# Altium schematic symbol library jlcpcb_2025_04_ferrites_extended_0805.schlib: 546 symbols (part 5 of 10)
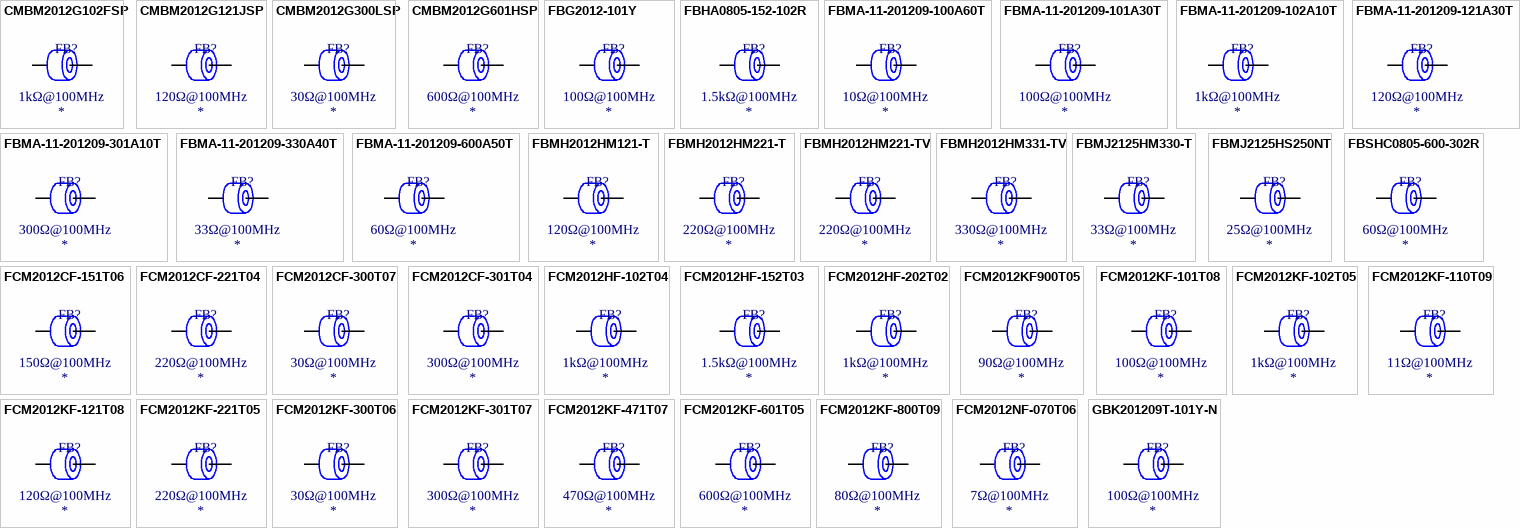
[diagram p17: symbols CMBM2012G102FSP to GBK201209T-101Y-N]

## FCM2012CF-151T06
designator FB?  Impedance @ Frequency: 150Ω@100MHz
Ferrite, 150Ω@100MHz, ±25%, 250mΩ, 600mA, SMD 0805; Manufacturer: TAI-TECH; Manufacturer Part Number: FCM2012CF-151T06; Package Size: 0805; JLCPCB Basic Part: No; JLCPCB Part Number: C155068; Supplier 1: LCSC; Category: Ferrite Beads; Supplier Part Number 1: C155068; Tolerance: ±25%; Rated Current: 600mA; DC Resistance: 250mΩ; RoHS: Yes; ComponentLink1Description: Datasheet; ComponentLink1URL: https://wmsc.lcsc.com/wmsc/upload/file/pdf/v2/lcsc/2009171306_TAI-TECH-FCM2012CF-151T06_C155068.pdf; ComponentLink2Description: JLCPCB Part URL; ComponentLink2URL: https://jlcpcb.com/partdetail/C155068; ComponentLink3Description: LCSC Part URL; ComponentLink3URL: https://lcsc.com/product-detail/Ferrite-Beads_TAI-TECH-TAI-TECH-FCM2012CF-151T06_C155068.html
footprint FB-0805 (0805 (2012M) Ferrite)
pins: 1, 2

## FCM2012CF-221T04
designator FB?  Impedance @ Frequency: 220Ω@100MHz
Ferrite, 220Ω@100MHz, ±25%, 300mΩ, 400mA, SMD 0805; Manufacturer: TAI-TECH; Manufacturer Part Number: FCM2012CF-221T04; Package Size: 0805; JLCPCB Basic Part: No; JLCPCB Part Number: C155069; Supplier 1: LCSC; Category: Ferrite Beads; Supplier Part Number 1: C155069; Tolerance: ±25%; Rated Current: 400mA; DC Resistance: 300mΩ; RoHS: Yes; ComponentLink1Description: Datasheet; ComponentLink1URL: https://wmsc.lcsc.com/wmsc/upload/file/pdf/v2/lcsc/2009171306_TAI-TECH-FCM2012CF-221T04_C155069.pdf; ComponentLink2Description: JLCPCB Part URL; ComponentLink2URL: https://jlcpcb.com/partdetail/C155069; ComponentLink3Description: LCSC Part URL; ComponentLink3URL: https://lcsc.com/product-detail/Ferrite-Beads_TAI-TECH-TAI-TECH-FCM2012CF-221T04_C155069.html
footprint FB-0805 (0805 (2012M) Ferrite)
pins: 1, 2

## FCM2012CF-300T07
designator FB?  Impedance @ Frequency: 30Ω@100MHz
Ferrite, 30Ω@100MHz, ±25%, 200mΩ, 700mA, SMD 0805; Manufacturer: TAI-TECH; Manufacturer Part Number: FCM2012CF-300T07; Package Size: 0805; JLCPCB Basic Part: No; JLCPCB Part Number: C155070; Supplier 1: LCSC; Category: Ferrite Beads; Supplier Part Number 1: C155070; Tolerance: ±25%; Rated Current: 700mA; DC Resistance: 200mΩ; RoHS: Yes; ComponentLink1Description: Datasheet; ComponentLink1URL: https://wmsc.lcsc.com/wmsc/upload/file/pdf/v2/lcsc/2009171306_TAI-TECH-FCM2012CF-300T07_C155070.pdf; ComponentLink2Description: JLCPCB Part URL; ComponentLink2URL: https://jlcpcb.com/partdetail/C155070; ComponentLink3Description: LCSC Part URL; ComponentLink3URL: https://lcsc.com/product-detail/Ferrite-Beads_TAI-TECH-TAI-TECH-FCM2012CF-300T07_C155070.html
footprint FB-0805 (0805 (2012M) Ferrite)
pins: 1, 2

## FCM2012CF-301T04
designator FB?  Impedance @ Frequency: 300Ω@100MHz
Ferrite, 300Ω@100MHz, ±25%, 350mΩ, 400mA, SMD 0805; Manufacturer: TAI-TECH; Manufacturer Part Number: FCM2012CF-301T04; Package Size: 0805; JLCPCB Basic Part: No; JLCPCB Part Number: C155071; Supplier 1: LCSC; Category: Ferrite Beads; Supplier Part Number 1: C155071; Tolerance: ±25%; Rated Current: 400mA; DC Resistance: 350mΩ; RoHS: Yes; ComponentLink1Description: Datasheet; ComponentLink1URL: https://wmsc.lcsc.com/wmsc/upload/file/pdf/v2/lcsc/2009171306_TAI-TECH-FCM2012CF-301T04_C155071.pdf; ComponentLink2Description: JLCPCB Part URL; ComponentLink2URL: https://jlcpcb.com/partdetail/C155071; ComponentLink3Description: LCSC Part URL; ComponentLink3URL: https://lcsc.com/product-detail/Ferrite-Beads_TAI-TECH-TAI-TECH-FCM2012CF-301T04_C155071.html
footprint FB-0805 (0805 (2012M) Ferrite)
pins: 1, 2

## FCM2012HF-102T04
designator FB?  Impedance @ Frequency: 1kΩ@100MHz
Ferrite, 1kΩ@100MHz, ±25%, 450mΩ, 400mA, SMD 0805; Manufacturer: TAI-TECH; Manufacturer Part Number: FCM2012HF-102T04; Package Size: 0805; JLCPCB Basic Part: No; JLCPCB Part Number: C155073; Supplier 1: LCSC; Category: Ferrite Beads; Supplier Part Number 1: C155073; Tolerance: ±25%; Rated Current: 400mA; DC Resistance: 450mΩ; RoHS: Yes; ComponentLink1Description: Datasheet; ComponentLink1URL: https://wmsc.lcsc.com/wmsc/upload/file/pdf/v2/lcsc/2009171306_TAI-TECH-FCM2012HF-102T04_C155073.pdf; ComponentLink2Description: JLCPCB Part URL; ComponentLink2URL: https://jlcpcb.com/partdetail/C155073; ComponentLink3Description: LCSC Part URL; ComponentLink3URL: https://lcsc.com/product-detail/Ferrite-Beads_TAI-TECH-TAI-TECH-FCM2012HF-102T04_C155073.html
footprint FB-0805 (0805 (2012M) Ferrite)
pins: 1, 2

## FCM2012HF-152T03
designator FB?  Impedance @ Frequency: 1.5kΩ@100MHz
Ferrite, 1.5kΩ@100MHz, ±25%, 500mΩ, 350mA, SMD 0805; Manufacturer: TAI-TECH; Manufacturer Part Number: FCM2012HF-152T03; Package Size: 0805; JLCPCB Basic Part: No; JLCPCB Part Number: C155074; Supplier 1: LCSC; Category: Ferrite Beads; Supplier Part Number 1: C155074; Tolerance: ±25%; Rated Current: 350mA; DC Resistance: 500mΩ; RoHS: Yes; ComponentLink1Description: Datasheet; ComponentLink1URL: https://wmsc.lcsc.com/wmsc/upload/file/pdf/v2/lcsc/2009171306_TAI-TECH-FCM2012HF-152T03_C155074.pdf; ComponentLink2Description: JLCPCB Part URL; ComponentLink2URL: https://jlcpcb.com/partdetail/C155074; ComponentLink3Description: LCSC Part URL; ComponentLink3URL: https://lcsc.com/product-detail/Ferrite-Beads_TAI-TECH-TAI-TECH-FCM2012HF-152T03_C155074.html
footprint FB-0805 (0805 (2012M) Ferrite)
pins: 1, 2

## FCM2012HF-202T02
designator FB?  Impedance @ Frequency: 1kΩ@100MHz
Ferrite, 1kΩ@100MHz, ±25%, 600mΩ, 250mA, SMD 0805; Manufacturer: TAI-TECH; Manufacturer Part Number: FCM2012HF-202T02; Package Size: 0805; JLCPCB Basic Part: No; JLCPCB Part Number: C155075; Supplier 1: LCSC; Category: Ferrite Beads; Supplier Part Number 1: C155075; Tolerance: ±25%; Rated Current: 250mA; DC Resistance: 600mΩ; RoHS: Yes; ComponentLink1Description: Datasheet; ComponentLink1URL: https://wmsc.lcsc.com/wmsc/upload/file/pdf/v2/lcsc/2009171306_TAI-TECH-FCM2012HF-202T02_C155075.pdf; ComponentLink2Description: JLCPCB Part URL; ComponentLink2URL: https://jlcpcb.com/partdetail/C155075; ComponentLink3Description: LCSC Part URL; ComponentLink3URL: https://lcsc.com/product-detail/Ferrite-Beads_TAI-TECH-TAI-TECH-FCM2012HF-202T02_C155075.html
footprint FB-0805 (0805 (2012M) Ferrite)
pins: 1, 2

## FCM2012KF900T05
designator FB?  Impedance @ Frequency: 90Ω@100MHz
Ferrite, 90Ω@100MHz, ±25%, 500mA, SMD 0805; Manufacturer: TAI-TECH; Manufacturer Part Number: FCM2012KF900T05; Package Size: 0805; JLCPCB Basic Part: No; JLCPCB Part Number: C194020; Supplier 1: LCSC; Category: Ferrite Beads; Supplier Part Number 1: C194020; Tolerance: ±25%; Rated Current: 500mA; RoHS: Yes; ComponentLink1Description: Datasheet; ComponentLink1URL: https://wmsc.lcsc.com/wmsc/upload/file/pdf/v2/lcsc/2101141901_TAI-TECH-FCM2012KF900T05_C194020.pdf; ComponentLink2Description: JLCPCB Part URL; ComponentLink2URL: https://jlcpcb.com/partdetail/C194020; ComponentLink3Description: LCSC Part URL; ComponentLink3URL: https://lcsc.com/product-detail/Ferrite-Beads_TAI-TECH-TAI-TECH-FCM2012KF900T05_C194020.html
pins: 1, 2

## FCM2012KF-101T08
designator FB?  Impedance @ Frequency: 100Ω@100MHz
Ferrite, 100Ω@100MHz, ±25%, 200mΩ, 800mA, SMD 0805; Manufacturer: TAI-TECH; Manufacturer Part Number: FCM2012KF-101T08; Package Size: 0805; JLCPCB Basic Part: No; JLCPCB Part Number: C304250; Supplier 1: LCSC; Category: Ferrite Beads; Supplier Part Number 1: C304250; Tolerance: ±25%; Rated Current: 800mA; DC Resistance: 200mΩ; RoHS: Yes; ComponentLink1Description: Datasheet; ComponentLink1URL: https://wmsc.lcsc.com/wmsc/upload/file/pdf/v2/lcsc/2009171410_TAI-TECH-FCM2012KF-101T08_C304250.pdf; ComponentLink2Description: JLCPCB Part URL; ComponentLink2URL: https://jlcpcb.com/partdetail/C304250; ComponentLink3Description: LCSC Part URL; ComponentLink3URL: https://lcsc.com/product-detail/Ferrite-Beads_TAI-TECH-TAI-TECH-FCM2012KF-101T08_C304250.html
footprint FB-0805 (0805 (2012M) Ferrite)
pins: 1, 2

## FCM2012KF-102T05
designator FB?  Impedance @ Frequency: 1kΩ@100MHz
Ferrite, 1kΩ@100MHz, ±25%, 450mΩ, 500mA, SMD 0805; Manufacturer: TAI-TECH; Manufacturer Part Number: FCM2012KF-102T05; Package Size: 0805; JLCPCB Basic Part: No; JLCPCB Part Number: C369542; Supplier 1: LCSC; Category: Ferrite Beads; Supplier Part Number 1: C369542; Tolerance: ±25%; Rated Current: 500mA; DC Resistance: 450mΩ; RoHS: Yes; ComponentLink1Description: Datasheet; ComponentLink1URL: https://wmsc.lcsc.com/wmsc/upload/file/pdf/v2/lcsc/2009171442_TAI-TECH-FCM2012KF-102T05_C369542.pdf; ComponentLink2Description: JLCPCB Part URL; ComponentLink2URL: https://jlcpcb.com/partdetail/C369542; ComponentLink3Description: LCSC Part URL; ComponentLink3URL: https://lcsc.com/product-detail/Ferrite-Beads_TAI-TECH-TAI-TECH-FCM2012KF-102T05_C369542.html
footprint FB-0805 (0805 (2012M) Ferrite)
pins: 1, 2

## FCM2012KF-110T09
designator FB?  Impedance @ Frequency: 11Ω@100MHz
Ferrite, 11Ω@100MHz, ±25%, 100mΩ, 900mA, SMD 0805; Manufacturer: TAI-TECH; Manufacturer Part Number: FCM2012KF-110T09; Package Size: 0805; JLCPCB Basic Part: No; JLCPCB Part Number: C155077; Supplier 1: LCSC; Category: Ferrite Beads; Supplier Part Number 1: C155077; Tolerance: ±25%; Rated Current: 900mA; DC Resistance: 100mΩ; RoHS: Yes; ComponentLink1Description: Datasheet; ComponentLink1URL: https://wmsc.lcsc.com/wmsc/upload/file/pdf/v2/lcsc/2009171307_TAI-TECH-FCM2012KF-110T09_C155077.pdf; ComponentLink2Description: JLCPCB Part URL; ComponentLink2URL: https://jlcpcb.com/partdetail/C155077; ComponentLink3Description: LCSC Part URL; ComponentLink3URL: https://lcsc.com/product-detail/Ferrite-Beads_TAI-TECH-TAI-TECH-FCM2012KF-110T09_C155077.html
footprint FB-0805 (0805 (2012M) Ferrite)
pins: 1, 2

## FCM2012KF-121T08
designator FB?  Impedance @ Frequency: 120Ω@100MHz
Ferrite, 120Ω@100MHz, ±25%, 200mΩ, 800mA, SMD 0805; Manufacturer: TAI-TECH; Manufacturer Part Number: FCM2012KF-121T08; Package Size: 0805; JLCPCB Basic Part: No; JLCPCB Part Number: C155078; Supplier 1: LCSC; Category: Ferrite Beads; Supplier Part Number 1: C155078; Tolerance: ±25%; Rated Current: 800mA; DC Resistance: 200mΩ; RoHS: Yes; ComponentLink1Description: Datasheet; ComponentLink1URL: https://wmsc.lcsc.com/wmsc/upload/file/pdf/v2/lcsc/2009171307_TAI-TECH-FCM2012KF-121T08_C155078.pdf; ComponentLink2Description: JLCPCB Part URL; ComponentLink2URL: https://jlcpcb.com/partdetail/C155078; ComponentLink3Description: LCSC Part URL; ComponentLink3URL: https://lcsc.com/product-detail/Ferrite-Beads_TAI-TECH-TAI-TECH-FCM2012KF-121T08_C155078.html
footprint FB-0805 (0805 (2012M) Ferrite)
pins: 1, 2

## FCM2012KF-221T05
designator FB?  Impedance @ Frequency: 220Ω@100MHz
Ferrite, 220Ω@100MHz, ±25%, 300mΩ, 500mA, SMD 0805; Manufacturer: TAI-TECH; Manufacturer Part Number: FCM2012KF-221T05; Package Size: 0805; JLCPCB Basic Part: No; JLCPCB Part Number: C369543; Supplier 1: LCSC; Category: Ferrite Beads; Supplier Part Number 1: C369543; Tolerance: ±25%; Rated Current: 500mA; DC Resistance: 300mΩ; RoHS: Yes; ComponentLink1Description: Datasheet; ComponentLink1URL: https://wmsc.lcsc.com/wmsc/upload/file/pdf/v2/lcsc/2009171442_TAI-TECH-FCM2012KF-221T05_C369543.pdf; ComponentLink2Description: JLCPCB Part URL; ComponentLink2URL: https://jlcpcb.com/partdetail/C369543; ComponentLink3Description: LCSC Part URL; ComponentLink3URL: https://lcsc.com/product-detail/Ferrite-Beads_TAI-TECH-TAI-TECH-FCM2012KF-221T05_C369543.html
footprint FB-0805 (0805 (2012M) Ferrite)
pins: 1, 2

## FCM2012KF-300T06
designator FB?  Impedance @ Frequency: 30Ω@100MHz
Ferrite, 30Ω@100MHz, ±25%, 100mΩ, 600mA, SMD 0805; Manufacturer: TAI-TECH; Manufacturer Part Number: FCM2012KF-300T06; Package Size: 0805; JLCPCB Basic Part: No; JLCPCB Part Number: C155083; Supplier 1: LCSC; Category: Ferrite Beads; Supplier Part Number 1: C155083; Tolerance: ±25%; Rated Current: 600mA; DC Resistance: 100mΩ; RoHS: Yes; ComponentLink1Description: Datasheet; ComponentLink1URL: https://wmsc.lcsc.com/wmsc/upload/file/pdf/v2/lcsc/2009171307_TAI-TECH-FCM2012KF-300T06_C155083.pdf; ComponentLink2Description: JLCPCB Part URL; ComponentLink2URL: https://jlcpcb.com/partdetail/C155083; ComponentLink3Description: LCSC Part URL; ComponentLink3URL: https://lcsc.com/product-detail/Ferrite-Beads_TAI-TECH-TAI-TECH-FCM2012KF-300T06_C155083.html
footprint FB-0805 (0805 (2012M) Ferrite)
pins: 1, 2

## FCM2012KF-301T07
designator FB?  Impedance @ Frequency: 300Ω@100MHz
Ferrite, 300Ω@100MHz, ±25%, 300mΩ, 700mA, SMD 0805; Manufacturer: TAI-TECH; Manufacturer Part Number: FCM2012KF-301T07; Package Size: 0805; JLCPCB Basic Part: No; JLCPCB Part Number: C155084; Supplier 1: LCSC; Category: Ferrite Beads; Supplier Part Number 1: C155084; Tolerance: ±25%; Rated Current: 700mA; DC Resistance: 300mΩ; RoHS: Yes; ComponentLink1Description: Datasheet; ComponentLink1URL: https://wmsc.lcsc.com/wmsc/upload/file/pdf/v2/lcsc/2009171307_TAI-TECH-FCM2012KF-301T07_C155084.pdf; ComponentLink2Description: JLCPCB Part URL; ComponentLink2URL: https://jlcpcb.com/partdetail/C155084; ComponentLink3Description: LCSC Part URL; ComponentLink3URL: https://lcsc.com/product-detail/Ferrite-Beads_TAI-TECH-TAI-TECH-FCM2012KF-301T07_C155084.html
footprint FB-0805 (0805 (2012M) Ferrite)
pins: 1, 2

## FCM2012KF-471T07
designator FB?  Impedance @ Frequency: 470Ω@100MHz
Ferrite, 470Ω@100MHz, ±25%, 350mΩ, 700mA, SMD 0805; Manufacturer: TAI-TECH; Manufacturer Part Number: FCM2012KF-471T07; Package Size: 0805; JLCPCB Basic Part: No; JLCPCB Part Number: C155086; Supplier 1: LCSC; Category: Ferrite Beads; Supplier Part Number 1: C155086; Tolerance: ±25%; Rated Current: 700mA; DC Resistance: 350mΩ; RoHS: Yes; ComponentLink1Description: Datasheet; ComponentLink1URL: https://wmsc.lcsc.com/wmsc/upload/file/pdf/v2/lcsc/2009171307_TAI-TECH-FCM2012KF-471T07_C155086.pdf; ComponentLink2Description: JLCPCB Part URL; ComponentLink2URL: https://jlcpcb.com/partdetail/C155086; ComponentLink3Description: LCSC Part URL; ComponentLink3URL: https://lcsc.com/product-detail/Ferrite-Beads_TAI-TECH-TAI-TECH-FCM2012KF-471T07_C155086.html
footprint FB-0805 (0805 (2012M) Ferrite)
pins: 1, 2

## FCM2012KF-601T05
designator FB?  Impedance @ Frequency: 600Ω@100MHz
Ferrite, 600Ω@100MHz, ±25%, 400mΩ, 500mA, SMD 0805; Manufacturer: TAI-TECH; Manufacturer Part Number: FCM2012KF-601T05; Package Size: 0805; JLCPCB Basic Part: No; JLCPCB Part Number: C127284; Supplier 1: LCSC; Category: Ferrite Beads; Supplier Part Number 1: C127284; Tolerance: ±25%; Rated Current: 500mA; DC Resistance: 400mΩ; RoHS: Yes; ComponentLink1Description: Datasheet; ComponentLink1URL: https://wmsc.lcsc.com/wmsc/upload/file/pdf/v2/lcsc/2009171134_TAI-TECH-FCM2012KF-601T05_C127284.pdf; ComponentLink2Description: JLCPCB Part URL; ComponentLink2URL: https://jlcpcb.com/partdetail/C127284; ComponentLink3Description: LCSC Part URL; ComponentLink3URL: https://lcsc.com/product-detail/Ferrite-Beads_TAI-TECH-TAI-TECH-FCM2012KF-601T05_C127284.html
footprint FB-0805 (0805 (2012M) Ferrite)
pins: 1, 2

## FCM2012KF-800T09
designator FB?  Impedance @ Frequency: 80Ω@100MHz
Ferrite, 80Ω@100MHz, ±25%, 200mΩ, 900mA, SMD 0805; Manufacturer: TAI-TECH; Manufacturer Part Number: FCM2012KF-800T09; Package Size: 0805; JLCPCB Basic Part: No; JLCPCB Part Number: C369544; Supplier 1: LCSC; Category: Ferrite Beads; Supplier Part Number 1: C369544; Tolerance: ±25%; Rated Current: 900mA; DC Resistance: 200mΩ; RoHS: Yes; ComponentLink1Description: Datasheet; ComponentLink1URL: https://wmsc.lcsc.com/wmsc/upload/file/pdf/v2/lcsc/2009171442_TAI-TECH-FCM2012KF-800T09_C369544.pdf; ComponentLink2Description: JLCPCB Part URL; ComponentLink2URL: https://jlcpcb.com/partdetail/C369544; ComponentLink3Description: LCSC Part URL; ComponentLink3URL: https://lcsc.com/product-detail/Ferrite-Beads_TAI-TECH-TAI-TECH-FCM2012KF-800T09_C369544.html
footprint FB-0805 (0805 (2012M) Ferrite)
pins: 1, 2

## FCM2012NF-070T06
designator FB?  Impedance @ Frequency: 7Ω@100MHz
Ferrite, 7Ω@100MHz, ±25%, 100mΩ, 600mA, SMD 0805; Manufacturer: TAI-TECH; Manufacturer Part Number: FCM2012NF-070T06; Package Size: 0805; JLCPCB Basic Part: No; JLCPCB Part Number: C155088; Supplier 1: LCSC; Category: Ferrite Beads; Supplier Part Number 1: C155088; Tolerance: ±25%; Rated Current: 600mA; DC Resistance: 100mΩ; RoHS: Yes; ComponentLink1Description: Datasheet; ComponentLink1URL: https://wmsc.lcsc.com/wmsc/upload/file/pdf/v2/lcsc/2009171307_TAI-TECH-FCM2012NF-070T06_C155088.pdf; ComponentLink2Description: JLCPCB Part URL; ComponentLink2URL: https://jlcpcb.com/partdetail/C155088; ComponentLink3Description: LCSC Part URL; ComponentLink3URL: https://lcsc.com/product-detail/Ferrite-Beads_TAI-TECH-TAI-TECH-FCM2012NF-070T06_C155088.html
footprint FB-0805 (0805 (2012M) Ferrite)
pins: 1, 2

## GBK201209T-101Y-N
designator FB?  Impedance @ Frequency: 100Ω@100MHz
Ferrite, 100Ω@100MHz, ±25%, SMD 0805; Manufacturer: Chilisin Elec; Manufacturer Part Number: GBK201209T-101Y-N; Package Size: 0805; JLCPCB Basic Part: No; JLCPCB Part Number: C142162; Supplier 1: LCSC; Category: Ferrite Beads; Supplier Part Number 1: C142162; Tolerance: ±25%; RoHS: Yes; ComponentLink1Description: Datasheet; ComponentLink1URL: https://wmsc.lcsc.com/wmsc/upload/file/pdf/v2/lcsc/2304140030_Chilisin-Elec-GBK201209T-101Y-N_C142162.pdf; ComponentLink2Description: JLCPCB Part URL; ComponentLink2URL: https://jlcpcb.com/partdetail/C142162; ComponentLink3Description: LCSC Part URL; ComponentLink3URL: https://lcsc.com/product-detail/Ferrite-Beads_Chilisin-Elec-Chilisin-Elec-GBK201209T-101Y-N_C142162.html
pins: 1, 2

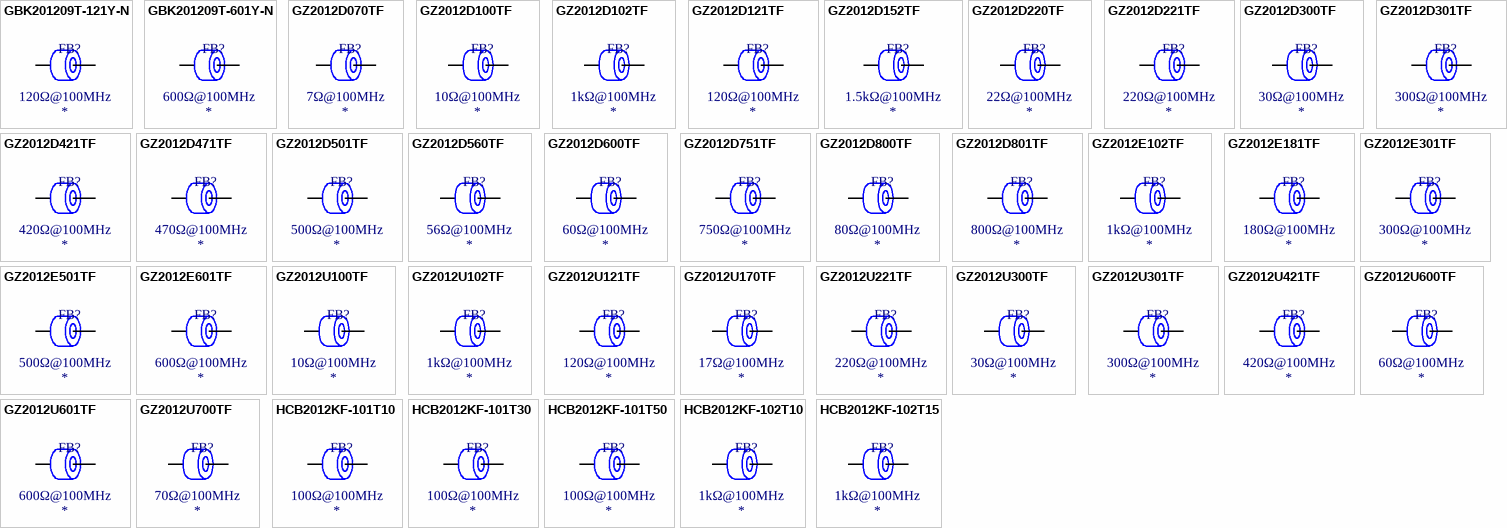
[diagram p6: symbols GBK201209T-121Y-N to HCB2012KF-102T15]

## GBK201209T-121Y-N
designator FB?  Impedance @ Frequency: 120Ω@100MHz
Ferrite, 120Ω@100MHz, ±25%, 0.15Ω, 800mA, SMD 0805; Manufacturer: Chilisin Elec; Manufacturer Part Number: GBK201209T-121Y-N; Package Size: 0805; JLCPCB Basic Part: No; JLCPCB Part Number: C285922; Supplier 1: LCSC; Category: Ferrite Beads; Supplier Part Number 1: C285922; Tolerance: ±25%; Rated Current: 800mA; DC Resistance: 0.15Ω; RoHS: Yes; ComponentLink1Description: Datasheet; ComponentLink1URL: https://wmsc.lcsc.com/wmsc/upload/file/pdf/v2/lcsc/2304140030_Chilisin-Elec-GBK201209T-121Y-N_C285922.pdf; ComponentLink2Description: JLCPCB Part URL; ComponentLink2URL: https://jlcpcb.com/partdetail/C285922; ComponentLink3Description: LCSC Part URL; ComponentLink3URL: https://lcsc.com/product-detail/Ferrite-Beads_Chilisin-Elec-Chilisin-Elec-GBK201209T-121Y-N_C285922.html
footprint FB-0805 (0805 (2012M) Ferrite)
pins: 1, 2

## GBK201209T-601Y-N
designator FB?  Impedance @ Frequency: 600Ω@100MHz
Ferrite, 600Ω@100MHz, ±25%, 0.25Ω, 500mA, SMD 0805; Manufacturer: Chilisin Elec; Manufacturer Part Number: GBK201209T-601Y-N; Package Size: 0805; JLCPCB Basic Part: No; JLCPCB Part Number: C280480; Supplier 1: LCSC; Category: Ferrite Beads; Supplier Part Number 1: C280480; Tolerance: ±25%; Rated Current: 500mA; DC Resistance: 0.25Ω; RoHS: Yes; ComponentLink1Description: Datasheet; ComponentLink1URL: https://wmsc.lcsc.com/wmsc/upload/file/pdf/v2/lcsc/1912111437_Chilisin-Elec-GBK201209T-601Y-N_C280480.pdf; ComponentLink2Description: JLCPCB Part URL; ComponentLink2URL: https://jlcpcb.com/partdetail/C280480; ComponentLink3Description: LCSC Part URL; ComponentLink3URL: https://lcsc.com/product-detail/Ferrite-Beads_Chilisin-Elec-Chilisin-Elec-GBK201209T-601Y-N_C280480.html
footprint FB-0805 (0805 (2012M) Ferrite)
pins: 1, 2

## GZ2012D070TF
designator FB?  Impedance @ Frequency: 7Ω@100MHz
Ferrite, 7Ω@100MHz, 40mΩ, 2A, SMD 0805; Manufacturer: Sunlord; Manufacturer Part Number: GZ2012D070TF; Package Size: 0805; JLCPCB Basic Part: No; JLCPCB Part Number: C33139; Supplier 1: LCSC; Category: Ferrite Beads; Supplier Part Number 1: C33139; Rated Current: 2A; DC Resistance: 40mΩ; RoHS: Yes; ComponentLink1Description: Datasheet; ComponentLink1URL: https://wmsc.lcsc.com/wmsc/upload/file/pdf/v2/lcsc/2310301640_Sunlord-GZ2012D070TF_C33139.pdf; ComponentLink2Description: JLCPCB Part URL; ComponentLink2URL: https://jlcpcb.com/partdetail/C33139; ComponentLink3Description: LCSC Part URL; ComponentLink3URL: https://lcsc.com/product-detail/Ferrite-Beads_Sunlord-Sunlord-GZ2012D070TF_C33139.html
pins: 1, 2

## GZ2012D100TF
designator FB?  Impedance @ Frequency: 10Ω@100MHz
Ferrite, 10Ω@100MHz, ±25%, SMD 0805; Manufacturer: Sunlord; Manufacturer Part Number: GZ2012D100TF; Package Size: 0805; JLCPCB Basic Part: No; JLCPCB Part Number: C53664; Supplier 1: LCSC; Category: Ferrite Beads; Supplier Part Number 1: C53664; Tolerance: ±25%; RoHS: Yes; ComponentLink1Description: Datasheet; ComponentLink1URL: https://wmsc.lcsc.com/wmsc/upload/file/pdf/v2/lcsc/2310301640_Sunlord-GZ2012D100TF_C53664.pdf; ComponentLink2Description: JLCPCB Part URL; ComponentLink2URL: https://jlcpcb.com/partdetail/C53664; ComponentLink3Description: LCSC Part URL; ComponentLink3URL: https://lcsc.com/product-detail/Ferrite-Beads_Sunlord-Sunlord-GZ2012D100TF_C53664.html
pins: 1, 2

## GZ2012D102TF
designator FB?  Impedance @ Frequency: 1kΩ@100MHz
Ferrite, 1kΩ@100MHz, ±25%, 350mΩ, 500mA, SMD 0805; Manufacturer: Sunlord; Manufacturer Part Number: GZ2012D102TF; Package Size: 0805; JLCPCB Basic Part: No; JLCPCB Part Number: C98485; Supplier 1: LCSC; Category: Ferrite Beads; Supplier Part Number 1: C98485; Tolerance: ±25%; Rated Current: 500mA; DC Resistance: 350mΩ; RoHS: Yes; ComponentLink1Description: Datasheet; ComponentLink1URL: https://wmsc.lcsc.com/wmsc/upload/file/pdf/v2/lcsc/2310301640_Sunlord-GZ2012D102TF_C98485.pdf; ComponentLink2Description: JLCPCB Part URL; ComponentLink2URL: https://jlcpcb.com/partdetail/C98485; ComponentLink3Description: LCSC Part URL; ComponentLink3URL: https://lcsc.com/product-detail/Ferrite-Beads_Sunlord-Sunlord-GZ2012D102TF_C98485.html
footprint FB-0805 (0805 (2012M) Ferrite)
pins: 1, 2

## GZ2012D121TF
designator FB?  Impedance @ Frequency: 120Ω@100MHz
Ferrite, 120Ω@100MHz, ±25%, 150mΩ, 800mA, SMD 0805; Manufacturer: Sunlord; Manufacturer Part Number: GZ2012D121TF; Package Size: 0805; JLCPCB Basic Part: No; JLCPCB Part Number: C5671; Supplier 1: LCSC; Category: Ferrite Beads; Supplier Part Number 1: C5671; Tolerance: ±25%; Rated Current: 800mA; DC Resistance: 150mΩ; RoHS: Yes; ComponentLink1Description: Datasheet; ComponentLink1URL: https://wmsc.lcsc.com/wmsc/upload/file/pdf/v2/lcsc/2310301640_Sunlord-GZ2012D121TF_C5671.pdf; ComponentLink2Description: JLCPCB Part URL; ComponentLink2URL: https://jlcpcb.com/partdetail/C5671; ComponentLink3Description: LCSC Part URL; ComponentLink3URL: https://lcsc.com/product-detail/Ferrite-Beads_Sunlord-Sunlord-GZ2012D121TF_C5671.html
footprint FB-0805 (0805 (2012M) Ferrite)
pins: 1, 2

## GZ2012D152TF
designator FB?  Impedance @ Frequency: 1.5kΩ@100MHz
Ferrite, 1.5kΩ@100MHz, ±25%, 400mΩ, 500mA, SMD 0805; Manufacturer: Sunlord; Manufacturer Part Number: GZ2012D152TF; Package Size: 0805; JLCPCB Basic Part: No; JLCPCB Part Number: C96710; Supplier 1: LCSC; Category: Ferrite Beads; Supplier Part Number 1: C96710; Tolerance: ±25%; Rated Current: 500mA; DC Resistance: 400mΩ; RoHS: Yes; ComponentLink1Description: Datasheet; ComponentLink1URL: https://wmsc.lcsc.com/wmsc/upload/file/pdf/v2/lcsc/2310301640_Sunlord-GZ2012D152TF_C96710.pdf; ComponentLink2Description: JLCPCB Part URL; ComponentLink2URL: https://jlcpcb.com/partdetail/C96710; ComponentLink3Description: LCSC Part URL; ComponentLink3URL: https://lcsc.com/product-detail/Ferrite-Beads_Sunlord-Sunlord-GZ2012D152TF_C96710.html
footprint FB-0805 (0805 (2012M) Ferrite)
pins: 1, 2

## GZ2012D220TF
designator FB?  Impedance @ Frequency: 22Ω@100MHz
Ferrite, 22Ω@100MHz, ±25%, SMD 0805; Manufacturer: Sunlord; Manufacturer Part Number: GZ2012D220TF; Package Size: 0805; JLCPCB Basic Part: No; JLCPCB Part Number: C1009; Supplier 1: LCSC; Category: Ferrite Beads; Supplier Part Number 1: C1009; Tolerance: ±25%; RoHS: Yes; ComponentLink1Description: Datasheet; ComponentLink1URL: https://wmsc.lcsc.com/wmsc/upload/file/pdf/v2/lcsc/2310301640_Sunlord-GZ2012D220TF_C1009.pdf; ComponentLink2Description: JLCPCB Part URL; ComponentLink2URL: https://jlcpcb.com/partdetail/C1009; ComponentLink3Description: LCSC Part URL; ComponentLink3URL: https://lcsc.com/product-detail/Ferrite-Beads_Sunlord-Sunlord-GZ2012D220TF_C1009.html
pins: 1, 2

## GZ2012D221TF
designator FB?  Impedance @ Frequency: 220Ω@100MHz
Ferrite, 220Ω@100MHz, ±25%, 200mΩ, 600mA, SMD 0805; Manufacturer: Sunlord; Manufacturer Part Number: GZ2012D221TF; Package Size: 0805; JLCPCB Basic Part: No; JLCPCB Part Number: C96711; Supplier 1: LCSC; Category: Ferrite Beads; Supplier Part Number 1: C96711; Tolerance: ±25%; Rated Current: 600mA; DC Resistance: 200mΩ; RoHS: Yes; ComponentLink1Description: Datasheet; ComponentLink1URL: https://wmsc.lcsc.com/wmsc/upload/file/pdf/v2/lcsc/2310301640_Sunlord-GZ2012D221TF_C96711.pdf; ComponentLink2Description: JLCPCB Part URL; ComponentLink2URL: https://jlcpcb.com/partdetail/C96711; ComponentLink3Description: LCSC Part URL; ComponentLink3URL: https://lcsc.com/product-detail/Ferrite-Beads_Sunlord-Sunlord-GZ2012D221TF_C96711.html
footprint FB-0805 (0805 (2012M) Ferrite)
pins: 1, 2

## GZ2012D300TF
designator FB?  Impedance @ Frequency: 30Ω@100MHz
Ferrite, 30Ω@100MHz, ±25%, 50mΩ, 1.5A, SMD 0805; Manufacturer: Sunlord; Manufacturer Part Number: GZ2012D300TF; Package Size: 0805; JLCPCB Basic Part: No; JLCPCB Part Number: C79864; Supplier 1: LCSC; Category: Ferrite Beads; Supplier Part Number 1: C79864; Tolerance: ±25%; Rated Current: 1.5A; DC Resistance: 50mΩ; RoHS: Yes; ComponentLink1Description: Datasheet; ComponentLink1URL: https://wmsc.lcsc.com/wmsc/upload/file/pdf/v2/lcsc/2310301640_Sunlord-GZ2012D300TF_C79864.pdf; ComponentLink2Description: JLCPCB Part URL; ComponentLink2URL: https://jlcpcb.com/partdetail/C79864; ComponentLink3Description: LCSC Part URL; ComponentLink3URL: https://lcsc.com/product-detail/Ferrite-Beads_Sunlord-Sunlord-GZ2012D300TF_C79864.html
footprint FB-0805 (0805 (2012M) Ferrite)
pins: 1, 2

## GZ2012D301TF
designator FB?  Impedance @ Frequency: 300Ω@100MHz
Ferrite, 300Ω@100MHz, ±25%, 200mΩ, 500mA, SMD 0805; Manufacturer: Sunlord; Manufacturer Part Number: GZ2012D301TF; Package Size: 0805; JLCPCB Basic Part: No; JLCPCB Part Number: C96712; Supplier 1: LCSC; Category: Ferrite Beads; Supplier Part Number 1: C96712; Tolerance: ±25%; Rated Current: 500mA; DC Resistance: 200mΩ; RoHS: Yes; ComponentLink1Description: Datasheet; ComponentLink1URL: https://wmsc.lcsc.com/wmsc/upload/file/pdf/v2/lcsc/2310301640_Sunlord-GZ2012D301TF_C96712.pdf; ComponentLink2Description: JLCPCB Part URL; ComponentLink2URL: https://jlcpcb.com/partdetail/C96712; ComponentLink3Description: LCSC Part URL; ComponentLink3URL: https://lcsc.com/product-detail/Ferrite-Beads_Sunlord-Sunlord-GZ2012D301TF_C96712.html
footprint FB-0805 (0805 (2012M) Ferrite)
pins: 1, 2

## GZ2012D421TF
designator FB?  Impedance @ Frequency: 420Ω@100MHz
Ferrite, 420Ω@100MHz, ±25%, 300mΩ, 500mA, SMD 0805; Manufacturer: Sunlord; Manufacturer Part Number: GZ2012D421TF; Package Size: 0805; JLCPCB Basic Part: No; JLCPCB Part Number: C361526; Supplier 1: LCSC; Category: Ferrite Beads; Supplier Part Number 1: C361526; Tolerance: ±25%; Rated Current: 500mA; DC Resistance: 300mΩ; RoHS: Yes; ComponentLink1Description: Datasheet; ComponentLink1URL: https://wmsc.lcsc.com/wmsc/upload/file/pdf/v2/lcsc/2310301640_Sunlord-GZ2012D421TF_C361526.pdf; ComponentLink2Description: JLCPCB Part URL; ComponentLink2URL: https://jlcpcb.com/partdetail/C361526; ComponentLink3Description: LCSC Part URL; ComponentLink3URL: https://lcsc.com/product-detail/Ferrite-Beads_Sunlord-Sunlord-GZ2012D421TF_C361526.html
footprint FB-0805 (0805 (2012M) Ferrite)
pins: 1, 2

## GZ2012D471TF
designator FB?  Impedance @ Frequency: 470Ω@100MHz
Ferrite, 470Ω@100MHz, ±25%, SMD 0805; Manufacturer: Sunlord; Manufacturer Part Number: GZ2012D471TF; Package Size: 0805; JLCPCB Basic Part: No; JLCPCB Part Number: C12631; Supplier 1: LCSC; Category: Ferrite Beads; Supplier Part Number 1: C12631; Tolerance: ±25%; RoHS: Yes; ComponentLink1Description: Datasheet; ComponentLink1URL: https://wmsc.lcsc.com/wmsc/upload/file/pdf/v2/lcsc/2310301640_Sunlord-GZ2012D471TF_C12631.pdf; ComponentLink2Description: JLCPCB Part URL; ComponentLink2URL: https://jlcpcb.com/partdetail/C12631; ComponentLink3Description: LCSC Part URL; ComponentLink3URL: https://lcsc.com/product-detail/Ferrite-Beads_Sunlord-Sunlord-GZ2012D471TF_C12631.html
pins: 1, 2

## GZ2012D501TF
designator FB?  Impedance @ Frequency: 500Ω@100MHz
Ferrite, 500Ω@100MHz, ±25%, 300mΩ, 500mA, SMD 0805; Manufacturer: Sunlord; Manufacturer Part Number: GZ2012D501TF; Package Size: 0805; JLCPCB Basic Part: No; JLCPCB Part Number: C361527; Supplier 1: LCSC; Category: Ferrite Beads; Supplier Part Number 1: C361527; Tolerance: ±25%; Rated Current: 500mA; DC Resistance: 300mΩ; RoHS: Yes; ComponentLink1Description: Datasheet; ComponentLink1URL: https://wmsc.lcsc.com/wmsc/upload/file/pdf/v2/lcsc/2310301640_Sunlord-GZ2012D501TF_C361527.pdf; ComponentLink2Description: JLCPCB Part URL; ComponentLink2URL: https://jlcpcb.com/partdetail/C361527; ComponentLink3Description: LCSC Part URL; ComponentLink3URL: https://lcsc.com/product-detail/Ferrite-Beads_Sunlord-Sunlord-GZ2012D501TF_C361527.html
footprint FB-0805 (0805 (2012M) Ferrite)
pins: 1, 2

## GZ2012D560TF
designator FB?  Impedance @ Frequency: 56Ω@100MHz
Ferrite, 56Ω@100MHz, ±25%, SMD 0805; Manufacturer: Sunlord; Manufacturer Part Number: GZ2012D560TF; Package Size: 0805; JLCPCB Basic Part: No; JLCPCB Part Number: C1011; Supplier 1: LCSC; Category: Ferrite Beads; Supplier Part Number 1: C1011; Tolerance: ±25%; RoHS: Yes; ComponentLink1Description: Datasheet; ComponentLink1URL: https://wmsc.lcsc.com/wmsc/upload/file/pdf/v2/lcsc/2310301640_Sunlord-GZ2012D560TF_C1011.pdf; ComponentLink2Description: JLCPCB Part URL; ComponentLink2URL: https://jlcpcb.com/partdetail/C1011; ComponentLink3Description: LCSC Part URL; ComponentLink3URL: https://lcsc.com/product-detail/Ferrite-Beads_Sunlord-Sunlord-GZ2012D560TF_C1011.html
pins: 1, 2

## GZ2012D600TF
designator FB?  Impedance @ Frequency: 60Ω@100MHz
Ferrite, 60Ω@100MHz, ±25%, SMD 0805; Manufacturer: Sunlord; Manufacturer Part Number: GZ2012D600TF; Package Size: 0805; JLCPCB Basic Part: No; JLCPCB Part Number: C1012; Supplier 1: LCSC; Category: Ferrite Beads; Supplier Part Number 1: C1012; Tolerance: ±25%; RoHS: Yes; ComponentLink1Description: Datasheet; ComponentLink1URL: https://wmsc.lcsc.com/wmsc/upload/file/pdf/v2/lcsc/2310301640_Sunlord-GZ2012D600TF_C1012.pdf; ComponentLink2Description: JLCPCB Part URL; ComponentLink2URL: https://jlcpcb.com/partdetail/C1012; ComponentLink3Description: LCSC Part URL; ComponentLink3URL: https://lcsc.com/product-detail/Ferrite-Beads_Sunlord-Sunlord-GZ2012D600TF_C1012.html
pins: 1, 2

## GZ2012D751TF
designator FB?  Impedance @ Frequency: 750Ω@100MHz
Ferrite, 750Ω@100MHz, ±25%, 350mΩ, 500mA, SMD 0805; Manufacturer: Sunlord; Manufacturer Part Number: GZ2012D751TF; Package Size: 0805; JLCPCB Basic Part: No; JLCPCB Part Number: C361528; Supplier 1: LCSC; Category: Ferrite Beads; Supplier Part Number 1: C361528; Tolerance: ±25%; Rated Current: 500mA; DC Resistance: 350mΩ; RoHS: Yes; ComponentLink1Description: Datasheet; ComponentLink1URL: https://wmsc.lcsc.com/wmsc/upload/file/pdf/v2/lcsc/2310301640_Sunlord-GZ2012D751TF_C361528.pdf; ComponentLink2Description: JLCPCB Part URL; ComponentLink2URL: https://jlcpcb.com/partdetail/C361528; ComponentLink3Description: LCSC Part URL; ComponentLink3URL: https://lcsc.com/product-detail/Ferrite-Beads_Sunlord-Sunlord-GZ2012D751TF_C361528.html
footprint FB-0805 (0805 (2012M) Ferrite)
pins: 1, 2

## GZ2012D800TF
designator FB?  Impedance @ Frequency: 80Ω@100MHz
Ferrite, 80Ω@100MHz, ±25%, 100mΩ, 1A, SMD 0805; Manufacturer: Sunlord; Manufacturer Part Number: GZ2012D800TF; Package Size: 0805; JLCPCB Basic Part: No; JLCPCB Part Number: C316425; Supplier 1: LCSC; Category: Ferrite Beads; Supplier Part Number 1: C316425; Tolerance: ±25%; Rated Current: 1A; DC Resistance: 100mΩ; RoHS: Yes; ComponentLink1Description: Datasheet; ComponentLink1URL: https://wmsc.lcsc.com/wmsc/upload/file/pdf/v2/lcsc/2310301640_Sunlord-GZ2012D800TF_C316425.pdf; ComponentLink2Description: JLCPCB Part URL; ComponentLink2URL: https://jlcpcb.com/partdetail/C316425; ComponentLink3Description: LCSC Part URL; ComponentLink3URL: https://lcsc.com/product-detail/Ferrite-Beads_Sunlord-Sunlord-GZ2012D800TF_C316425.html
footprint FB-0805 (0805 (2012M) Ferrite)
pins: 1, 2

## GZ2012D801TF
designator FB?  Impedance @ Frequency: 800Ω@100MHz
Ferrite, 800Ω@100MHz, ±25%, SMD 0805; Manufacturer: Sunlord; Manufacturer Part Number: GZ2012D801TF; Package Size: 0805; JLCPCB Basic Part: No; JLCPCB Part Number: C92624; Supplier 1: LCSC; Category: Ferrite Beads; Supplier Part Number 1: C92624; Tolerance: ±25%; RoHS: Yes; ComponentLink1Description: Datasheet; ComponentLink1URL: https://wmsc.lcsc.com/wmsc/upload/file/pdf/v2/lcsc/2310301640_Sunlord-GZ2012D801TF_C92624.pdf; ComponentLink2Description: JLCPCB Part URL; ComponentLink2URL: https://jlcpcb.com/partdetail/C92624; ComponentLink3Description: LCSC Part URL; ComponentLink3URL: https://lcsc.com/product-detail/Ferrite-Beads_Sunlord-Sunlord-GZ2012D801TF_C92624.html
pins: 1, 2

## GZ2012E102TF
designator FB?  Impedance @ Frequency: 1kΩ@100MHz
Ferrite, 1kΩ@100MHz, ±25%, 350mΩ, 500mA, SMD 0805; Manufacturer: Sunlord; Manufacturer Part Number: GZ2012E102TF; Package Size: 0805; JLCPCB Basic Part: No; JLCPCB Part Number: C361533; Supplier 1: LCSC; Category: Ferrite Beads; Supplier Part Number 1: C361533; Tolerance: ±25%; Rated Current: 500mA; DC Resistance: 350mΩ; RoHS: Yes; ComponentLink1Description: Datasheet; ComponentLink1URL: https://wmsc.lcsc.com/wmsc/upload/file/pdf/v2/lcsc/2310301640_Sunlord-GZ2012E102TF_C361533.pdf; ComponentLink2Description: JLCPCB Part URL; ComponentLink2URL: https://jlcpcb.com/partdetail/C361533; ComponentLink3Description: LCSC Part URL; ComponentLink3URL: https://lcsc.com/product-detail/Ferrite-Beads_Sunlord-Sunlord-GZ2012E102TF_C361533.html
footprint FB-0805 (0805 (2012M) Ferrite)
pins: 1, 2

## GZ2012E181TF
designator FB?  Impedance @ Frequency: 180Ω@100MHz
Ferrite, 180Ω@100MHz, ±25%, 200mΩ, 600mA, SMD 0805; Manufacturer: Sunlord; Manufacturer Part Number: GZ2012E181TF; Package Size: 0805; JLCPCB Basic Part: No; JLCPCB Part Number: C361530; Supplier 1: LCSC; Category: Ferrite Beads; Supplier Part Number 1: C361530; Tolerance: ±25%; Rated Current: 600mA; DC Resistance: 200mΩ; RoHS: Yes; ComponentLink1Description: Datasheet; ComponentLink1URL: https://wmsc.lcsc.com/wmsc/upload/file/pdf/v2/lcsc/2310301640_Sunlord-GZ2012E181TF_C361530.pdf; ComponentLink2Description: JLCPCB Part URL; ComponentLink2URL: https://jlcpcb.com/partdetail/C361530; ComponentLink3Description: LCSC Part URL; ComponentLink3URL: https://lcsc.com/product-detail/Ferrite-Beads_Sunlord-Sunlord-GZ2012E181TF_C361530.html
footprint FB-0805 (0805 (2012M) Ferrite)
pins: 1, 2

## GZ2012E301TF
designator FB?  Impedance @ Frequency: 300Ω@100MHz
Ferrite, 300Ω@100MHz, ±25%, 200mΩ, 500mA, SMD 0805; Manufacturer: Sunlord; Manufacturer Part Number: GZ2012E301TF; Package Size: 0805; JLCPCB Basic Part: No; JLCPCB Part Number: C361531; Supplier 1: LCSC; Category: Ferrite Beads; Supplier Part Number 1: C361531; Tolerance: ±25%; Rated Current: 500mA; DC Resistance: 200mΩ; RoHS: Yes; ComponentLink1Description: Datasheet; ComponentLink1URL: https://wmsc.lcsc.com/wmsc/upload/file/pdf/v2/lcsc/2310301640_Sunlord-GZ2012E301TF_C361531.pdf; ComponentLink2Description: JLCPCB Part URL; ComponentLink2URL: https://jlcpcb.com/partdetail/C361531; ComponentLink3Description: LCSC Part URL; ComponentLink3URL: https://lcsc.com/product-detail/Ferrite-Beads_Sunlord-Sunlord-GZ2012E301TF_C361531.html
footprint FB-0805 (0805 (2012M) Ferrite)
pins: 1, 2

## GZ2012E501TF
designator FB?  Impedance @ Frequency: 500Ω@100MHz
Ferrite, 500Ω@100MHz, ±25%, 300mΩ, 500mA, SMD 0805; Manufacturer: Sunlord; Manufacturer Part Number: GZ2012E501TF; Package Size: 0805; JLCPCB Basic Part: No; JLCPCB Part Number: C361532; Supplier 1: LCSC; Category: Ferrite Beads; Supplier Part Number 1: C361532; Tolerance: ±25%; Rated Current: 500mA; DC Resistance: 300mΩ; RoHS: Yes; ComponentLink1Description: Datasheet; ComponentLink1URL: https://wmsc.lcsc.com/wmsc/upload/file/pdf/v2/lcsc/2310301640_Sunlord-GZ2012E501TF_C361532.pdf; ComponentLink2Description: JLCPCB Part URL; ComponentLink2URL: https://jlcpcb.com/partdetail/C361532; ComponentLink3Description: LCSC Part URL; ComponentLink3URL: https://lcsc.com/product-detail/Ferrite-Beads_Sunlord-Sunlord-GZ2012E501TF_C361532.html
footprint FB-0805 (0805 (2012M) Ferrite)
pins: 1, 2

## GZ2012E601TF
designator FB?  Impedance @ Frequency: 600Ω@100MHz
Ferrite, 600Ω@100MHz, ±25%, 300mΩ, 500mA, SMD 0805; Manufacturer: Sunlord; Manufacturer Part Number: GZ2012E601TF; Package Size: 0805; JLCPCB Basic Part: No; JLCPCB Part Number: C98266; Supplier 1: LCSC; Category: Ferrite Beads; Supplier Part Number 1: C98266; Tolerance: ±25%; Rated Current: 500mA; DC Resistance: 300mΩ; RoHS: Yes; ComponentLink1Description: Datasheet; ComponentLink1URL: https://wmsc.lcsc.com/wmsc/upload/file/pdf/v2/lcsc/2310301640_Sunlord-GZ2012E601TF_C98266.pdf; ComponentLink2Description: JLCPCB Part URL; ComponentLink2URL: https://jlcpcb.com/partdetail/C98266; ComponentLink3Description: LCSC Part URL; ComponentLink3URL: https://lcsc.com/product-detail/Ferrite-Beads_Sunlord-Sunlord-GZ2012E601TF_C98266.html
footprint FB-0805 (0805 (2012M) Ferrite)
pins: 1, 2

## GZ2012U100TF
designator FB?  Impedance @ Frequency: 10Ω@100MHz
Ferrite, 10Ω@100MHz, 40mΩ, 2.2A, SMD 0805; Manufacturer: Sunlord; Manufacturer Part Number: GZ2012U100TF; Package Size: 0805; JLCPCB Basic Part: No; JLCPCB Part Number: C361534; Supplier 1: LCSC; Category: Ferrite Beads; Supplier Part Number 1: C361534; Rated Current: 2.2A; DC Resistance: 40mΩ; RoHS: Yes; ComponentLink1Description: Datasheet; ComponentLink1URL: https://wmsc.lcsc.com/wmsc/upload/file/pdf/v2/lcsc/2310301640_Sunlord-GZ2012U100TF_C361534.pdf; ComponentLink2Description: JLCPCB Part URL; ComponentLink2URL: https://jlcpcb.com/partdetail/C361534; ComponentLink3Description: LCSC Part URL; ComponentLink3URL: https://lcsc.com/product-detail/Ferrite-Beads_Sunlord-Sunlord-GZ2012U100TF_C361534.html
pins: 1, 2

## GZ2012U102TF
designator FB?  Impedance @ Frequency: 1kΩ@100MHz
Ferrite, 1kΩ@100MHz, ±25%, 400mΩ, 500mA, SMD 0805; Manufacturer: Sunlord; Manufacturer Part Number: GZ2012U102TF; Package Size: 0805; JLCPCB Basic Part: No; JLCPCB Part Number: C74323; Supplier 1: LCSC; Category: Ferrite Beads; Supplier Part Number 1: C74323; Tolerance: ±25%; Rated Current: 500mA; DC Resistance: 400mΩ; RoHS: Yes; ComponentLink1Description: Datasheet; ComponentLink1URL: https://wmsc.lcsc.com/wmsc/upload/file/pdf/v2/lcsc/2310301640_Sunlord-GZ2012U102TF_C74323.pdf; ComponentLink2Description: JLCPCB Part URL; ComponentLink2URL: https://jlcpcb.com/partdetail/C74323; ComponentLink3Description: LCSC Part URL; ComponentLink3URL: https://lcsc.com/product-detail/Ferrite-Beads_Sunlord-Sunlord-GZ2012U102TF_C74323.html
footprint FB-0805 (0805 (2012M) Ferrite)
pins: 1, 2

## GZ2012U121TF
designator FB?  Impedance @ Frequency: 120Ω@100MHz
Ferrite, 120Ω@100MHz, ±25%, 150mΩ, 800mA, SMD 0805; Manufacturer: Sunlord; Manufacturer Part Number: GZ2012U121TF; Package Size: 0805; JLCPCB Basic Part: No; JLCPCB Part Number: C361538; Supplier 1: LCSC; Category: Ferrite Beads; Supplier Part Number 1: C361538; Tolerance: ±25%; Rated Current: 800mA; DC Resistance: 150mΩ; RoHS: Yes; ComponentLink1Description: Datasheet; ComponentLink1URL: https://wmsc.lcsc.com/wmsc/upload/file/pdf/v2/lcsc/2310301640_Sunlord-GZ2012U121TF_C361538.pdf; ComponentLink2Description: JLCPCB Part URL; ComponentLink2URL: https://jlcpcb.com/partdetail/C361538; ComponentLink3Description: LCSC Part URL; ComponentLink3URL: https://lcsc.com/product-detail/Ferrite-Beads_Sunlord-Sunlord-GZ2012U121TF_C361538.html
footprint FB-0805 (0805 (2012M) Ferrite)
pins: 1, 2

## GZ2012U170TF
designator FB?  Impedance @ Frequency: 17Ω@100MHz
Ferrite, 17Ω@100MHz, ±25%, 40mΩ, 2A, SMD 0805; Manufacturer: Sunlord; Manufacturer Part Number: GZ2012U170TF; Package Size: 0805; JLCPCB Basic Part: No; JLCPCB Part Number: C361535; Supplier 1: LCSC; Category: Ferrite Beads; Supplier Part Number 1: C361535; Tolerance: ±25%; Rated Current: 2A; DC Resistance: 40mΩ; RoHS: Yes; ComponentLink1Description: Datasheet; ComponentLink1URL: https://wmsc.lcsc.com/wmsc/upload/file/pdf/v2/lcsc/2310301640_Sunlord-GZ2012U170TF_C361535.pdf; ComponentLink2Description: JLCPCB Part URL; ComponentLink2URL: https://jlcpcb.com/partdetail/C361535; ComponentLink3Description: LCSC Part URL; ComponentLink3URL: https://lcsc.com/product-detail/Ferrite-Beads_Sunlord-Sunlord-GZ2012U170TF_C361535.html
footprint FB-0805 (0805 (2012M) Ferrite)
pins: 1, 2

## GZ2012U221TF
designator FB?  Impedance @ Frequency: 220Ω@100MHz
Ferrite, 220Ω@100MHz, ±25%, 200mΩ, 600mA, SMD 0805; Manufacturer: Sunlord; Manufacturer Part Number: GZ2012U221TF; Package Size: 0805; JLCPCB Basic Part: No; JLCPCB Part Number: C361539; Supplier 1: LCSC; Category: Ferrite Beads; Supplier Part Number 1: C361539; Tolerance: ±25%; Rated Current: 600mA; DC Resistance: 200mΩ; RoHS: Yes; ComponentLink1Description: Datasheet; ComponentLink1URL: https://wmsc.lcsc.com/wmsc/upload/file/pdf/v2/lcsc/2310301640_Sunlord-GZ2012U221TF_C361539.pdf; ComponentLink2Description: JLCPCB Part URL; ComponentLink2URL: https://jlcpcb.com/partdetail/C361539; ComponentLink3Description: LCSC Part URL; ComponentLink3URL: https://lcsc.com/product-detail/Ferrite-Beads_Sunlord-Sunlord-GZ2012U221TF_C361539.html
footprint FB-0805 (0805 (2012M) Ferrite)
pins: 1, 2

## GZ2012U300TF
designator FB?  Impedance @ Frequency: 30Ω@100MHz
Ferrite, 30Ω@100MHz, ±25%, 50mΩ, 1.5A, SMD 0805; Manufacturer: Sunlord; Manufacturer Part Number: GZ2012U300TF; Package Size: 0805; JLCPCB Basic Part: No; JLCPCB Part Number: C361536; Supplier 1: LCSC; Category: Ferrite Beads; Supplier Part Number 1: C361536; Tolerance: ±25%; Rated Current: 1.5A; DC Resistance: 50mΩ; RoHS: Yes; ComponentLink1Description: Datasheet; ComponentLink1URL: https://wmsc.lcsc.com/wmsc/upload/file/pdf/v2/lcsc/2310301640_Sunlord-GZ2012U300TF_C361536.pdf; ComponentLink2Description: JLCPCB Part URL; ComponentLink2URL: https://jlcpcb.com/partdetail/C361536; ComponentLink3Description: LCSC Part URL; ComponentLink3URL: https://lcsc.com/product-detail/Ferrite-Beads_Sunlord-Sunlord-GZ2012U300TF_C361536.html
footprint FB-0805 (0805 (2012M) Ferrite)
pins: 1, 2

## GZ2012U301TF
designator FB?  Impedance @ Frequency: 300Ω@100MHz
Ferrite, 300Ω@100MHz, ±25%, 200mΩ, 500mA, SMD 0805; Manufacturer: Sunlord; Manufacturer Part Number: GZ2012U301TF; Package Size: 0805; JLCPCB Basic Part: No; JLCPCB Part Number: C361540; Supplier 1: LCSC; Category: Ferrite Beads; Supplier Part Number 1: C361540; Tolerance: ±25%; Rated Current: 500mA; DC Resistance: 200mΩ; RoHS: Yes; ComponentLink1Description: Datasheet; ComponentLink1URL: https://wmsc.lcsc.com/wmsc/upload/file/pdf/v2/lcsc/2310301640_Sunlord-GZ2012U301TF_C361540.pdf; ComponentLink2Description: JLCPCB Part URL; ComponentLink2URL: https://jlcpcb.com/partdetail/C361540; ComponentLink3Description: LCSC Part URL; ComponentLink3URL: https://lcsc.com/product-detail/Ferrite-Beads_Sunlord-Sunlord-GZ2012U301TF_C361540.html
footprint FB-0805 (0805 (2012M) Ferrite)
pins: 1, 2

## GZ2012U421TF
designator FB?  Impedance @ Frequency: 420Ω@100MHz
Ferrite, 420Ω@100MHz, ±25%, 250mΩ, 500mA, SMD 0805; Manufacturer: Sunlord; Manufacturer Part Number: GZ2012U421TF; Package Size: 0805; JLCPCB Basic Part: No; JLCPCB Part Number: C361541; Supplier 1: LCSC; Category: Ferrite Beads; Supplier Part Number 1: C361541; Tolerance: ±25%; Rated Current: 500mA; DC Resistance: 250mΩ; RoHS: Yes; ComponentLink1Description: Datasheet; ComponentLink1URL: https://wmsc.lcsc.com/wmsc/upload/file/pdf/v2/lcsc/2310301640_Sunlord-GZ2012U421TF_C361541.pdf; ComponentLink2Description: JLCPCB Part URL; ComponentLink2URL: https://jlcpcb.com/partdetail/C361541; ComponentLink3Description: LCSC Part URL; ComponentLink3URL: https://lcsc.com/product-detail/Ferrite-Beads_Sunlord-Sunlord-GZ2012U421TF_C361541.html
footprint FB-0805 (0805 (2012M) Ferrite)
pins: 1, 2

## GZ2012U600TF
designator FB?  Impedance @ Frequency: 60Ω@100MHz
Ferrite, 60Ω@100MHz, SMD 0805; Manufacturer: Sunlord; Manufacturer Part Number: GZ2012U600TF; Package Size: 0805; JLCPCB Basic Part: No; JLCPCB Part Number: C2992327; Supplier 1: LCSC; Category: Ferrite Beads; Supplier Part Number 1: C2992327; RoHS: Yes; ComponentLink1Description: Datasheet; ComponentLink1URL: https://wmsc.lcsc.com/wmsc/upload/file/pdf/v2/lcsc/2310301640_Sunlord-GZ2012U600TF_C2992327.pdf; ComponentLink2Description: JLCPCB Part URL; ComponentLink2URL: https://jlcpcb.com/partdetail/C2992327; ComponentLink3Description: LCSC Part URL; ComponentLink3URL: https://lcsc.com/product-detail/Ferrite-Beads_Sunlord-Sunlord-GZ2012U600TF_C2992327.html
pins: 1, 2

## GZ2012U601TF
designator FB?  Impedance @ Frequency: 600Ω@100MHz
Ferrite, 600Ω@100MHz, ±25%, 300mΩ, 500mA, SMD 0805; Manufacturer: Sunlord; Manufacturer Part Number: GZ2012U601TF; Package Size: 0805; JLCPCB Basic Part: No; JLCPCB Part Number: C98267; Supplier 1: LCSC; Category: Ferrite Beads; Supplier Part Number 1: C98267; Tolerance: ±25%; Rated Current: 500mA; DC Resistance: 300mΩ; RoHS: Yes; ComponentLink1Description: Datasheet; ComponentLink1URL: https://wmsc.lcsc.com/wmsc/upload/file/pdf/v2/lcsc/2310301640_Sunlord-GZ2012U601TF_C98267.pdf; ComponentLink2Description: JLCPCB Part URL; ComponentLink2URL: https://jlcpcb.com/partdetail/C98267; ComponentLink3Description: LCSC Part URL; ComponentLink3URL: https://lcsc.com/product-detail/Ferrite-Beads_Sunlord-Sunlord-GZ2012U601TF_C98267.html
footprint FB-0805 (0805 (2012M) Ferrite)
pins: 1, 2

## GZ2012U700TF
designator FB?  Impedance @ Frequency: 70Ω@100MHz
Ferrite, 70Ω@100MHz, ±25%, 100mΩ, 1A, SMD 0805; Manufacturer: Sunlord; Manufacturer Part Number: GZ2012U700TF; Package Size: 0805; JLCPCB Basic Part: No; JLCPCB Part Number: C361537; Supplier 1: LCSC; Category: Ferrite Beads; Supplier Part Number 1: C361537; Tolerance: ±25%; Rated Current: 1A; DC Resistance: 100mΩ; RoHS: Yes; ComponentLink1Description: Datasheet; ComponentLink1URL: https://wmsc.lcsc.com/wmsc/upload/file/pdf/v2/lcsc/2310301640_Sunlord-GZ2012U700TF_C361537.pdf; ComponentLink2Description: JLCPCB Part URL; ComponentLink2URL: https://jlcpcb.com/partdetail/C361537; ComponentLink3Description: LCSC Part URL; ComponentLink3URL: https://lcsc.com/product-detail/Ferrite-Beads_Sunlord-Sunlord-GZ2012U700TF_C361537.html
footprint FB-0805 (0805 (2012M) Ferrite)
pins: 1, 2

## HCB2012KF-101T10
designator FB?  Impedance @ Frequency: 100Ω@100MHz
Ferrite, 100Ω@100MHz, ±25%, 100mΩ, 1A, SMD 0805; Manufacturer: TAI-TECH; Manufacturer Part Number: HCB2012KF-101T10; Package Size: 0805; JLCPCB Basic Part: No; JLCPCB Part Number: C127287; Supplier 1: LCSC; Category: Ferrite Beads; Supplier Part Number 1: C127287; Tolerance: ±25%; Rated Current: 1A; DC Resistance: 100mΩ; RoHS: Yes; ComponentLink1Description: Datasheet; ComponentLink1URL: https://wmsc.lcsc.com/wmsc/upload/file/pdf/v2/lcsc/2009171134_TAI-TECH-HCB2012KF-101T10_C127287.pdf; ComponentLink2Description: JLCPCB Part URL; ComponentLink2URL: https://jlcpcb.com/partdetail/C127287; ComponentLink3Description: LCSC Part URL; ComponentLink3URL: https://lcsc.com/product-detail/Ferrite-Beads_TAI-TECH-TAI-TECH-HCB2012KF-101T10_C127287.html
footprint FB-0805 (0805 (2012M) Ferrite)
pins: 1, 2

## HCB2012KF-101T30
designator FB?  Impedance @ Frequency: 100Ω@100MHz
Ferrite, 100Ω@100MHz, ±25%, 40mΩ, 3A, SMD 0805; Manufacturer: TAI-TECH; Manufacturer Part Number: HCB2012KF-101T30; Package Size: 0805; JLCPCB Basic Part: No; JLCPCB Part Number: C369517; Supplier 1: LCSC; Category: Ferrite Beads; Supplier Part Number 1: C369517; Tolerance: ±25%; Rated Current: 3A; DC Resistance: 40mΩ; RoHS: Yes; ComponentLink1Description: Datasheet; ComponentLink1URL: https://wmsc.lcsc.com/wmsc/upload/file/pdf/v2/lcsc/2009171441_TAI-TECH-HCB2012KF-101T30_C369517.pdf; ComponentLink2Description: JLCPCB Part URL; ComponentLink2URL: https://jlcpcb.com/partdetail/C369517; ComponentLink3Description: LCSC Part URL; ComponentLink3URL: https://lcsc.com/product-detail/Ferrite-Beads_TAI-TECH-TAI-TECH-HCB2012KF-101T30_C369517.html
footprint FB-0805 (0805 (2012M) Ferrite)
pins: 1, 2

## HCB2012KF-101T50
designator FB?  Impedance @ Frequency: 100Ω@100MHz
Ferrite, 100Ω@100MHz, ±25%, 5A, SMD 0805; Manufacturer: TAI-TECH; Manufacturer Part Number: HCB2012KF-101T50; Package Size: 0805; JLCPCB Basic Part: No; JLCPCB Part Number: C304321; Supplier 1: LCSC; Category: Ferrite Beads; Supplier Part Number 1: C304321; Tolerance: ±25%; Rated Current: 5A; RoHS: Yes; ComponentLink1Description: Datasheet; ComponentLink1URL: https://wmsc.lcsc.com/wmsc/upload/file/pdf/v2/lcsc/2009171411_TAI-TECH-HCB2012KF-101T50_C304321.pdf; ComponentLink2Description: JLCPCB Part URL; ComponentLink2URL: https://jlcpcb.com/partdetail/C304321; ComponentLink3Description: LCSC Part URL; ComponentLink3URL: https://lcsc.com/product-detail/Ferrite-Beads_TAI-TECH-TAI-TECH-HCB2012KF-101T50_C304321.html
pins: 1, 2